# EAGLE library part AD1836 (library analog-devices_custom)
Multichannel 96 kHz Codec Auto generated by make-symbol-device-package-bsdl.ulp Rev. 32 Source: http://www.analog.com/static/imported-files/data_sheets/AD1836.pdf
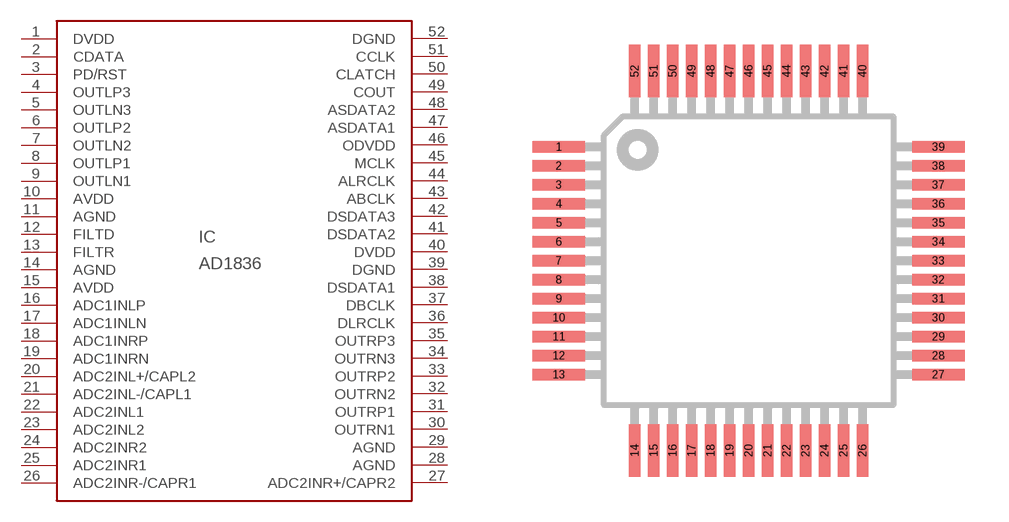
[diagram p52: symbol with the pads of PQFP52; footprint PQFP52]

Designator prefix IC

## AD1836 (MF: ALTERA CORPORATION; MPN: AD1836AASZ; OC_FARNELL: 8396558; OC_NEWARK: 59K3418)  [PQFP52]
1  DVDD  pwr
2  CDATA  in
3  PD/RST  in
4  OUTLP3  out
5  OUTLN3  out
6  OUTLP2  out
7  OUTLN2  out
8  OUTLP1  out
9  OUTLN1  out
10  AVDD  in
11  AGND  in
12  FILTD  in
13  FILTR  in
14  AGND  in
15  AVDD  in
16  ADC1INLP  in
17  ADC1INLN  in
18  ADC1INRP  in
19  ADC1INRN  in
20  ADC2INL+/CAPL2  in
21  ADC2INL-/CAPL1  in
22  ADC2INL1  in
23  ADC2INL2  in
24  ADC2INR2  in
25  ADC2INR1  in
26  ADC2INR-/CAPR1  in
27  ADC2INR+/CAPR2  in
28  AGND  in
29  AGND  in
30  OUTRN1  out
31  OUTRP1  out
32  OUTRN2  out
33  OUTRP2  out
34  OUTRN3  out
35  OUTRP3  out
36  DLRCLK
37  DBCLK
38  DSDATA1  in
39  DGND  pwr
40  DVDD  pwr
41  DSDATA2  in
42  DSDATA3  in
43  ABCLK  out
44  ALRCLK  out
45  MCLK  in
46  ODVDD  in
47  ASDATA1  out
48  ASDATA2  out
49  COUT  out
50  CLATCH  in
51  CCLK  in
52  DGND  pwr

## Footprint PQFP52 (pad centres in mm)
PLASTIC QUAD FLAT PACK
smd 1.8 x 0.4: 1 -6.5,3.9; 2 -6.5,3.25; 3 -6.5,2.6; 4 -6.5,1.95; 5 -6.5,1.3; 6 -6.5,0.65; 7 -6.5,0; 8 -6.5,-0.65; 9 -6.5,-1.3; 10 -6.5,-1.95; 11 -6.5,-2.6; 12 -6.5,-3.25; 13 -6.5,-3.9; 27 6.5,-3.9; 28 6.5,-3.25; 29 6.5,-2.6; 30 6.5,-1.95; 31 6.5,-1.3; 32 6.5,-0.65; 33 6.5,0; 34 6.5,0.65; 35 6.5,1.3; 36 6.5,1.95; 37 6.5,2.6; 38 6.5,3.25; 39 6.5,3.9
smd 0.4 x 1.8: 14 -3.9,-6.5; 15 -3.25,-6.5; 16 -2.6,-6.5; 17 -1.95,-6.5; 18 -1.3,-6.5; 19 -0.65,-6.5; 20 0,-6.5; 21 0.65,-6.5; 22 1.3,-6.5; 23 1.95,-6.5; 24 2.6,-6.5; 25 3.25,-6.5; 26 3.9,-6.5; 40 3.9,6.5; 41 3.25,6.5; 42 2.6,6.5; 43 1.95,6.5; 44 1.3,6.5; 45 0.65,6.5; 46 0,6.5; 47 -0.65,6.5; 48 -1.3,6.5; 49 -1.95,6.5; 50 -2.6,6.5; 51 -3.25,6.5; 52 -3.9,6.5